# Altium footprint library FDC638P.PcbLib: 2 footprints
Each footprint in its own frame and in the unit in brackets; x right, y up, seen from the top. Pads: shape width x height; smd on the part's side, far side on the other; paste and mask are expansions set on the pad; w line width, h text height; cw(c..) or ccw(c..) is an arc to the next point about the centre after c.
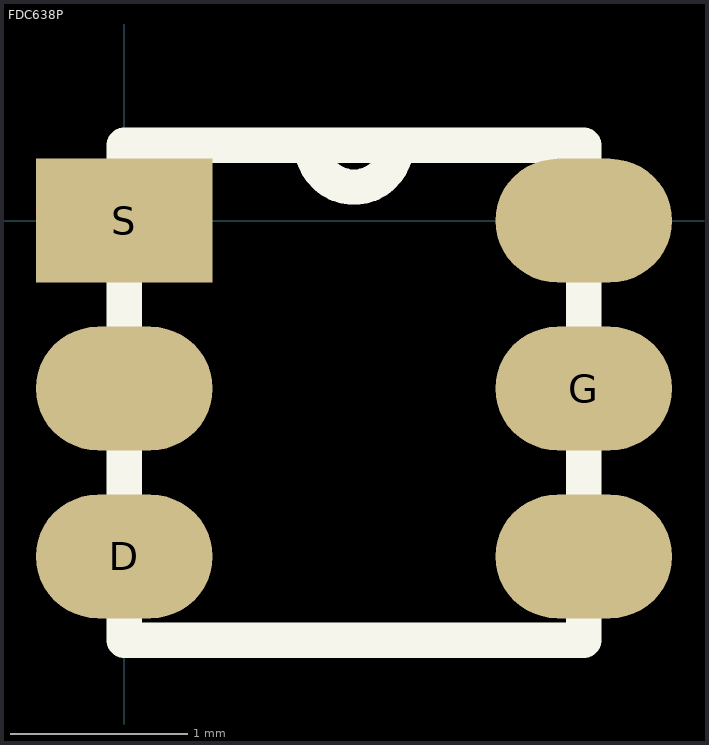
[diagram p0: the footprints below, top view; thin cyan lines are the x and y axes]

## FDC638P [mm]
pads (6):
  oval 1x0.7 smd: D(0,-1.9) G(2.6,-0.95) ""(0,-0.95) ""(2.6,-1.9) ""(2.6,0)
  rect 1x0.7 smd: S(0,0)
Top Overlay:
  lines w0.2: 0,-2.373 0,0.427 1.538,0.427 cw(c1.3,0.427) 1.062,0.427 2.6,0.427 2.6,-2.373 0,-2.373

## PCBComponent_1 [mm]